# Altium integrated library hdr_4P_1.25m.IntLib: 1 symbol
Pins are listed as number, name and electrical type; pins without a type are passive.

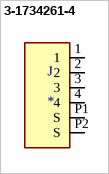
[diagram p0: symbol 3-1734261-4]

## 3-1734261-4
designator J
4位单排1.25mm直角表面安装接头连接器; MP: 3-1734261-4; MF: TE Connectivity
footprint TE_3-1734261-4
pins: 1, 2, 3, 4, P1 S, P2 S